# Altium footprint library PCB - BUZZER - PUI Audio SMT-0827-S-2-R.PCBLIB: 1 footprints
Each footprint in its own frame and in the unit in brackets; x right, y up, seen from the top. Pads: shape width x height; smd on the part's side, far side on the other; paste and mask are expansions set on the pad; w line width, h text height; cw(c..) or ccw(c..) is an arc to the next point about the centre after c.
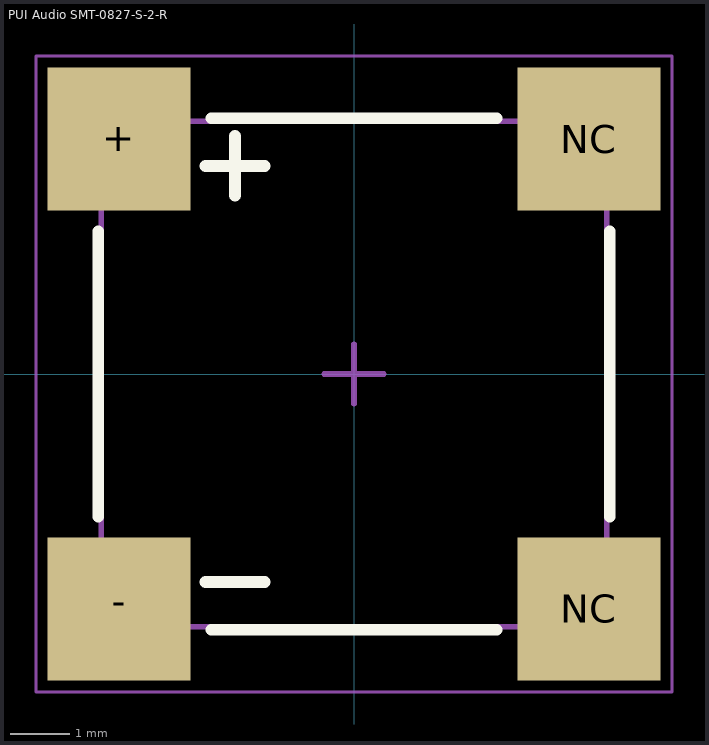
[diagram p0: the footprint, top view; thin cyan lines are the x and y axes]

## PUI Audio SMT-0827-S-2-R [mm] "Buzzer 8.5x8.5mm"
height 4
pads (4):
  rect 2.4x2.4 smd: +(-3.95,3.95) -(-3.95,-3.95) NC(3.95,-3.95) NC(3.95,3.95)
Top Overlay:
  lines w0.2: -4.3,-2.4 -4.3,2.4 ; -2.5,-3.5 -1.5,-3.5 ; -2.5,3.5 -1.5,3.5 ; -2.4,-4.3 2.4,-4.3 ; -2.4,4.3 2.4,4.3 ; -2,3 -2,4 ; 4.3,-2.4 4.3,2.4
Mechanical 13:
  lines w0.1: -4.25,-4.25 -4.25,4.25 4.25,4.25 4.25,-4.25 -4.25,-4.25
Mechanical 15:
  lines w0.05: -5.35,-5.35 -5.35,5.35 5.35,5.35 5.35,-5.35 -5.35,-5.35
  lines w0.1: -0.5,0 0.5,0 ; 0,-0.5 0,0.5
3D body "PUI Audio - SMT-0827-S-2-R.step": height 4, standoff 0, extent -4.25,-4.25 4.251,4.25